# Altium integrated library WE-GDT Gate-Drive-Transformer.IntLib: 6 symbols
Pins are listed as number, name and electrical type; pins without a type are passive.

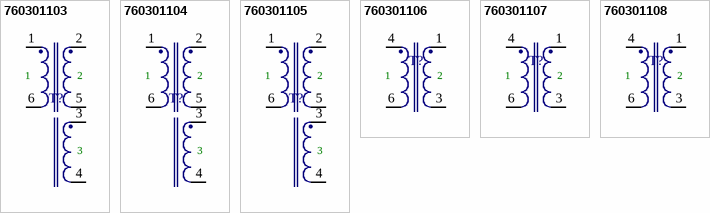
[diagram p0: symbols 760301103 to 760301108]

## 760301103
designator T?
Gate-Drive-Transformer WE-GDT , L=350µH; PartNumber: 760301103; Inductance: 350µH; Turns Ratio: 2.5; PackageReference: EP5; ComponentLink1Description: Manufacturer URL; ComponentLink1URL: http://www.we-online.com; ComponentLink2Description: Datasheet; ComponentLink2URL: http://www.we-online.de/katalog/media/pdf/760301103.pdf
footprint EP5 (SMD, 6-Leads, Body 6.6x6.0mm (max), Pitch 1.85mm, IPC Medium Density)
pins: 1, 2, 3, 4, 5, 6

## 760301104
designator T?
Gate-Drive-Transformer WE-GDT , L=330µH; PartNumber: 760301104; Inductance: 330µH; Turns Ratio: 2; PackageReference: EP5; ComponentLink1Description: Manufacturer URL; ComponentLink1URL: http://www.we-online.com; ComponentLink2Description: Datasheet; ComponentLink2URL: http://www.we-online.de/katalog/media/pdf/760301104.pdf
footprint EP5 (SMD, 6-Leads, Body 6.6x6.0mm (max), Pitch 1.85mm, IPC Medium Density)
pins: 1, 2, 3, 4, 5, 6

## 760301105
designator T?
Gate-Drive-Transformer WE-GDT , L=260µH; PartNumber: 760301105; Inductance: 260µH; Turns Ratio: 1; PackageReference: EP5; ComponentLink1Description: Manufacturer URL; ComponentLink1URL: http://www.we-online.com; ComponentLink2Description: Datasheet; ComponentLink2URL: http://www.we-online.de/katalog/media/pdf/760301105.pdf
footprint EP5 (SMD, 6-Leads, Body 6.6x6.0mm (max), Pitch 1.85mm, IPC Medium Density)
pins: 1, 2, 3, 4, 5, 6

## 760301106
designator T?
Gate-Drive-Transformer WE-GDT , L=370µH; PartNumber: 760301106; Inductance: 370µH; Turns Ratio: 1; PackageReference: EP5; ComponentLink1Description: Manufacturer URL; ComponentLink1URL: http://www.we-online.com; ComponentLink2Description: Datasheet; ComponentLink2URL: http://www.we-online.de/katalog/media/pdf/760301106.pdf
footprint EP5 (SMD, 6-Leads, Body 6.6x6.0mm (max), Pitch 1.85mm, IPC Medium Density)
pins: 1, 3, 4, 6
text: 2

## 760301107
designator T?
Gate-Drive-Transformer WE-GDT , L=650µH; PartNumber: 760301107; Inductance: 650µH; Turns Ratio: 1.5; PackageReference: EP5; ComponentLink1Description: Manufacturer URL; ComponentLink1URL: http://www.we-online.com; ComponentLink2Description: Datasheet; ComponentLink2URL: http://www.we-online.de/katalog/media/pdf/760301107.pdf
footprint EP5 (SMD, 6-Leads, Body 6.6x6.0mm (max), Pitch 1.85mm, IPC Medium Density)
pins: 1, 3, 4, 6
text: 2

## 760301108
designator T?
Gate-Drive-Transformer WE-GDT , L=460µH; PartNumber: 760301108; Inductance: 460µH; Turns Ratio: 2.5; PackageReference: EP5; ComponentLink1Description: Manufacturer URL; ComponentLink1URL: http://www.we-online.com; ComponentLink2Description: Datasheet; ComponentLink2URL: http://www.we-online.de/katalog/media/pdf/760301108.pdf
footprint EP5 (SMD, 6-Leads, Body 6.6x6.0mm (max), Pitch 1.85mm, IPC Medium Density)
pins: 1, 3, 4, 6
text: 2